# Altium schematic symbol library PCAL6524HEAZ.SchLib: 1 symbol
Pins are listed as number, name and electrical type; pins without a type are passive.

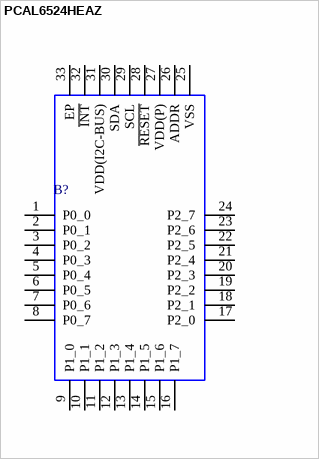
[diagram p0: symbol PCAL6524HEAZ]

## PCAL6524HEAZ
designator B?
Interface - I/O Expanders PCAL6524HE/HUQFN32///REEL 7 Q2/T3 *STANDARD MARK; Manufacturer_Name: NXP; Geometry.Height: 0.6mm; Manufacturer_Part_Number: PCAL6524HEAZ; Mouser Part Number: 771-PCAL6524HEAZ; Mouser Price/Stock: https://www.mouser.co.uk/ProductDetail/NXP-Semiconductors/PCAL6524HEAZ?qs=gH1BdSMZm8UzrKpsyR%252B%2FSg%3D%3D; Arrow Part Number: PCAL6524HEAZ; Arrow Price/Stock: https://www.arrow.com/en/products/pcal6524heaz/nxp-semiconductors?region=nac; Mouser Testing Part Number: *; Mouser Testing Price/Stock: *; Datasheet Link: http://www.nxp.com/docs/en/data-sheet/PCAL6524.pdf
footprint QFN50P500X500X60-33N-D
pins: 1 P0_0, 2 P0_1, 3 P0_2, 4 P0_3, 5 P0_4, 6 P0_5, 7 P0_6, 8 P0_7, 9 P1_0, 10 P1_1, 11 P1_2, 12 P1_3, 13 P1_4, 14 P1_5, 15 P1_6, 16 P1_7, 17 P2_0, 18 P2_1, 19 P2_2, 20 P2_3, 21 P2_4, 22 P2_5, 23 P2_6, 24 P2_7, 25 VSS, 26 ADDR, 27 VDD(P), 28 ~{RESET}, 29 SCL, 30 SDA, 31 VDD(I2C-BUS), 32 ~{INT}, 33 EP